# EAGLE library part 750313769 (library Wurth Electronics Midcom Inc - EAGLE Lib V2-1)
Package Style: Toroid Mounting: SMD Pins: 6 pins Bobbin: 250-1123 Best pinouts for production vary per application. Please contact Wurth Electronics Midcom, Inc. for assistance with your custom design. Website: Wurth Electronics Midcom <http://www.we-online.com/midcom> Contact us Wurth Electronics Midcom, Inc. 121 Airport Dr. Watertown, SD 57201 Phone: (605) 886-4385 Fax: (605) 886-4486 E-Mail: midcom@we-online.com
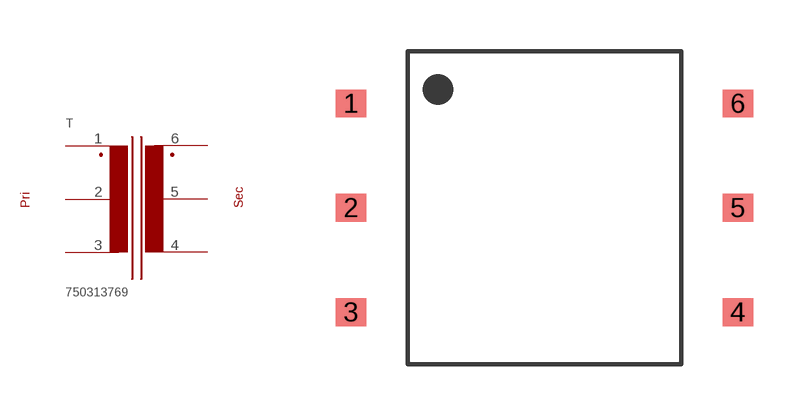
[diagram p199: symbol with the pads of TOROID_SMD_6PIN_(1123); footprint TOROID_SMD_6PIN_(1123)]

Designator prefix T

## 750313769  [TOROID_SMD_6PIN_(1123)]
1  1  pas
2  2  pas
3  3  pas
4  4  pas
5  5  pas
6  6  pas

## Footprint TOROID_SMD_6PIN_(1123) (pad centres in mm)
Package Style: Toroid Mounting: SMD Pins: 6 Bobbin: 250-1123
smd 0.889 x 0.813: 1 -5.652,3.048; 2 -5.652,0; 3 -5.652,-3.048; 4 5.652,-3.048; 5 5.652,0; 6 5.652,3.048